# Altium schematic symbol library Miscellaneous.SchLib: 14 symbols
Pins are listed as number, name and electrical type; pins without a type are passive.

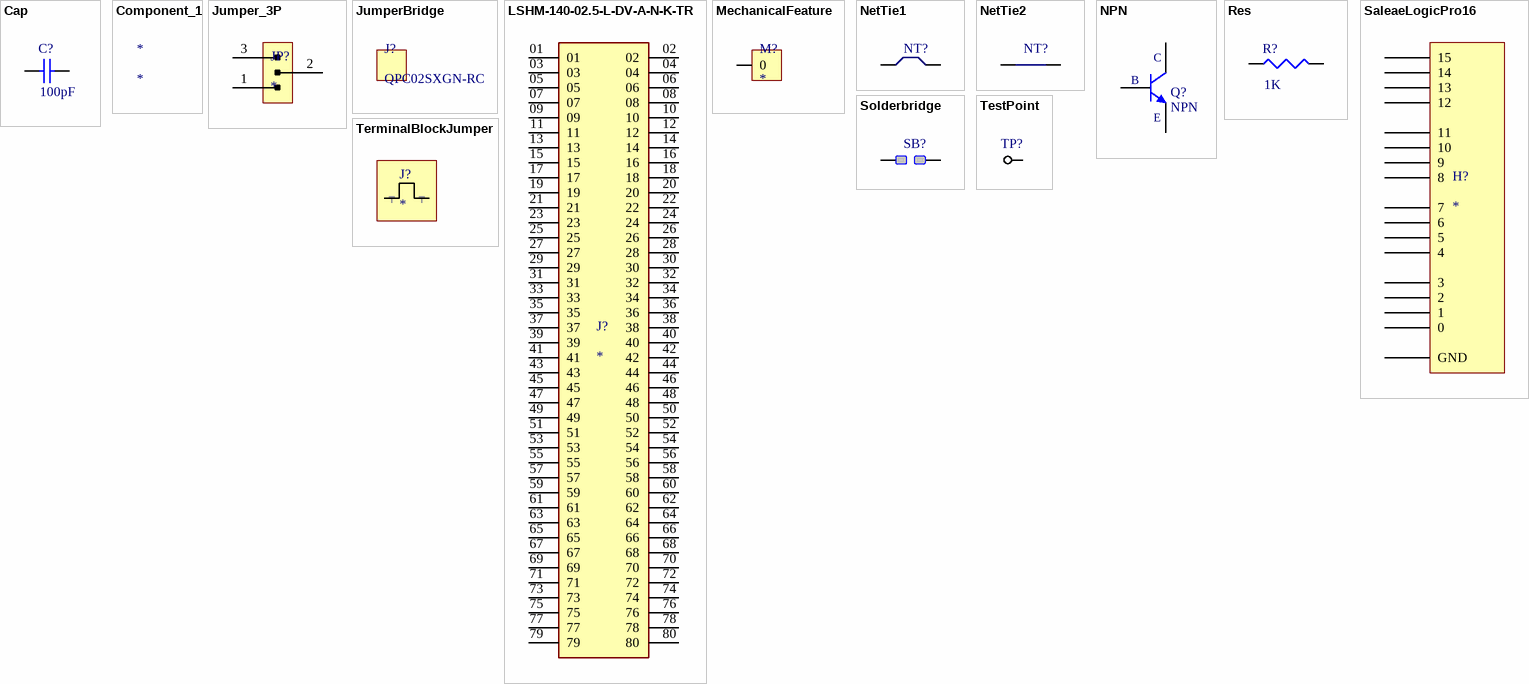
[diagram p0: symbols Cap to TestPoint]

## Cap
designator C?  value 100pF  (hidden comment: Cap)
Capacitor; Published: 8-Jun-2000; LatestRevisionDate: 17-Jul-2002; LatestRevisionNote: Re-released for DXP Platform.; PackageReference: RAD-0.3; Publisher: Altium Limited; PackageDescription: Radial Cap, Thru-Hole; 2 Leads; 0.3 in Pin Spacing
simulation model CAP (Capacitor)
signal-integrity model Cap
footprint CAP_0201
footprint CAP_0402 (Chip Capacitor, 2-Leads, Body 1.05x0.55mm, IPC Low Density)
footprint CAP_0603 (Chip Capacitor, 2-Leads, Body 1.7x0.9mm, IPC Low Density)
footprint CAP_0805
footprint CAP_1206 (Chip Capacitor, 2-Leads, Body 3.5x1.9mm, IPC Low Density)
pins: 1, 2

## Component_1
designator *

## Jumper_3P
designator JP?
3 Pin Jumper
footprint Header_100mil_1x3
pins: 1, 2, 3

## JumperBridge
designator J?, comment QPC02SXGN-RC
footprint JumperBridge (Removable Jumper Bridge)

## LSHM-140-02.5-L-DV-A-N-K-TR
designator J?
LSHM - Samtec 0.50mm Razor Beam High-Speed Hermaphroditic Terminal / Socket Strip.; MP: LSHM-140-02.5-L-DV-A-N-K-TR; Price: None; Availability: Unavailable; Value: *; Package: None
footprint SAMTEC_LSHM-140-02.5-L-DV-A-N-K-TR (EPOS4 Connector)
pins: 01, 02, 03, 04, 05, 06, 07, 08, 09, 10, 11, 12, 13, 14, 15, 16, 17, 18, 19, 20, 21, 22, 23, 24, 25, 26, 27, 28, 29, 30, 31, 32, 33, 34, 35, 36, 37, 38, 39, 40, 41, 42, 43, 44, 45, 46, 47, 48, 49, 50, 51, 52, 53, 54, 55, 56, 57, 58, 59, 60, 61, 62, 63, 64, 65, 66, 67, 68, 69, 70, 71, 72, 73, 74, 75, 76, 77, 78, 79, 80

## MechanicalFeature
designator M?
footprint 1944-0-00-15-00-00-03-0 (MillMax PC Pin Spool)
pins: 0

## NetTie1
designator NT?  (value not drawn)  (net tie, no BOM)
footprint NetTie1 (0.5mm pads. 0.4mm tie, 1mm total length)
footprint NetTie2 (1mm pads. 0.9mm tie, 1mm total length)
pins: 1, 2

## NetTie2
designator NT?  (value not drawn)  (net tie, no BOM)
footprint NetTie1 (0.5mm pads. 0.4mm tie, 1mm total length)
footprint NetTie2 (1mm pads. 0.9mm tie, 1mm total length)
pins: 1, 2

## NPN
designator Q?
NPN Transistor; Published: 8-Jun-2000; LatestRevisionDate: 17-Jul-2002; LatestRevisionNote: Re-released for DXP Platform.; Publisher: Altium Limited; Supplier 1: Future Electronics; Supplier Part Number 1: 5141901
footprint TO-226-AA (TO, Flat Index; 3 In-Line, Axial Leads; Body Dia. 4.8mm; Leads 0.55 x 0.51 mm (max))
simulation model NPN
signal-integrity model NPN
footprint TRANS_PMXB43UNEZ; pin to pad 1>3+4 2>1 3>2
pins: 1 C, 2 B, 3 E

## Res
designator R?  value 1K  (hidden comment: Res)
Resistor; PackageDescription: Chip Resistor; PartNumber: *
simulation model RESISTOR (Resistor)
signal-integrity model Res
footprint RES_0201
footprint RES_0402 (Chip Resistor, 2-Leads, Body 1.05x0.55mm, IPC High Density)
footprint RES_0603
footprint RES_0805
footprint RES_1206
pins: 1, 2

## SaleaeLogicPro16
designator H?
PartNumber: 87606-804LF; Supplier 1: Digi-Key; Supplier Part Number 1: SSW-104-22-G-D-VS-K-TR-ND; Supplier 2: Arrow Electronics; Supplier Part Number 2: 87606-804LF
footprint SALEAELOGICPRO16
footprint SALEAELOGICPRO16_FEMALE
footprint SALEAELOGICPRO16_FEMALE_SMD
pins: 0, 1, 2, 3, 4, 5, 6, 7, 8, 9, 10, 11, 12, 13, 14, 15, GND

## Solderbridge
designator SB?  (value not drawn)  (no BOM)
footprint Solderbridge3x2
footprint Solderbridge3x4
footprint Solderbridge2x1.5
footprint Solderbridge2x1
pins: 1, 2

## TerminalBlockJumper
designator J?
footprint 0380021226

## TestPoint
designator TP?  (value not drawn)
footprint TP_SMT_1mm (1mm_PAD)
pins: 1